# Altium integrated library Infineon_Power_Supply_Voltage_Regulator.IntLib: 346 symbols (part 2 of 16)
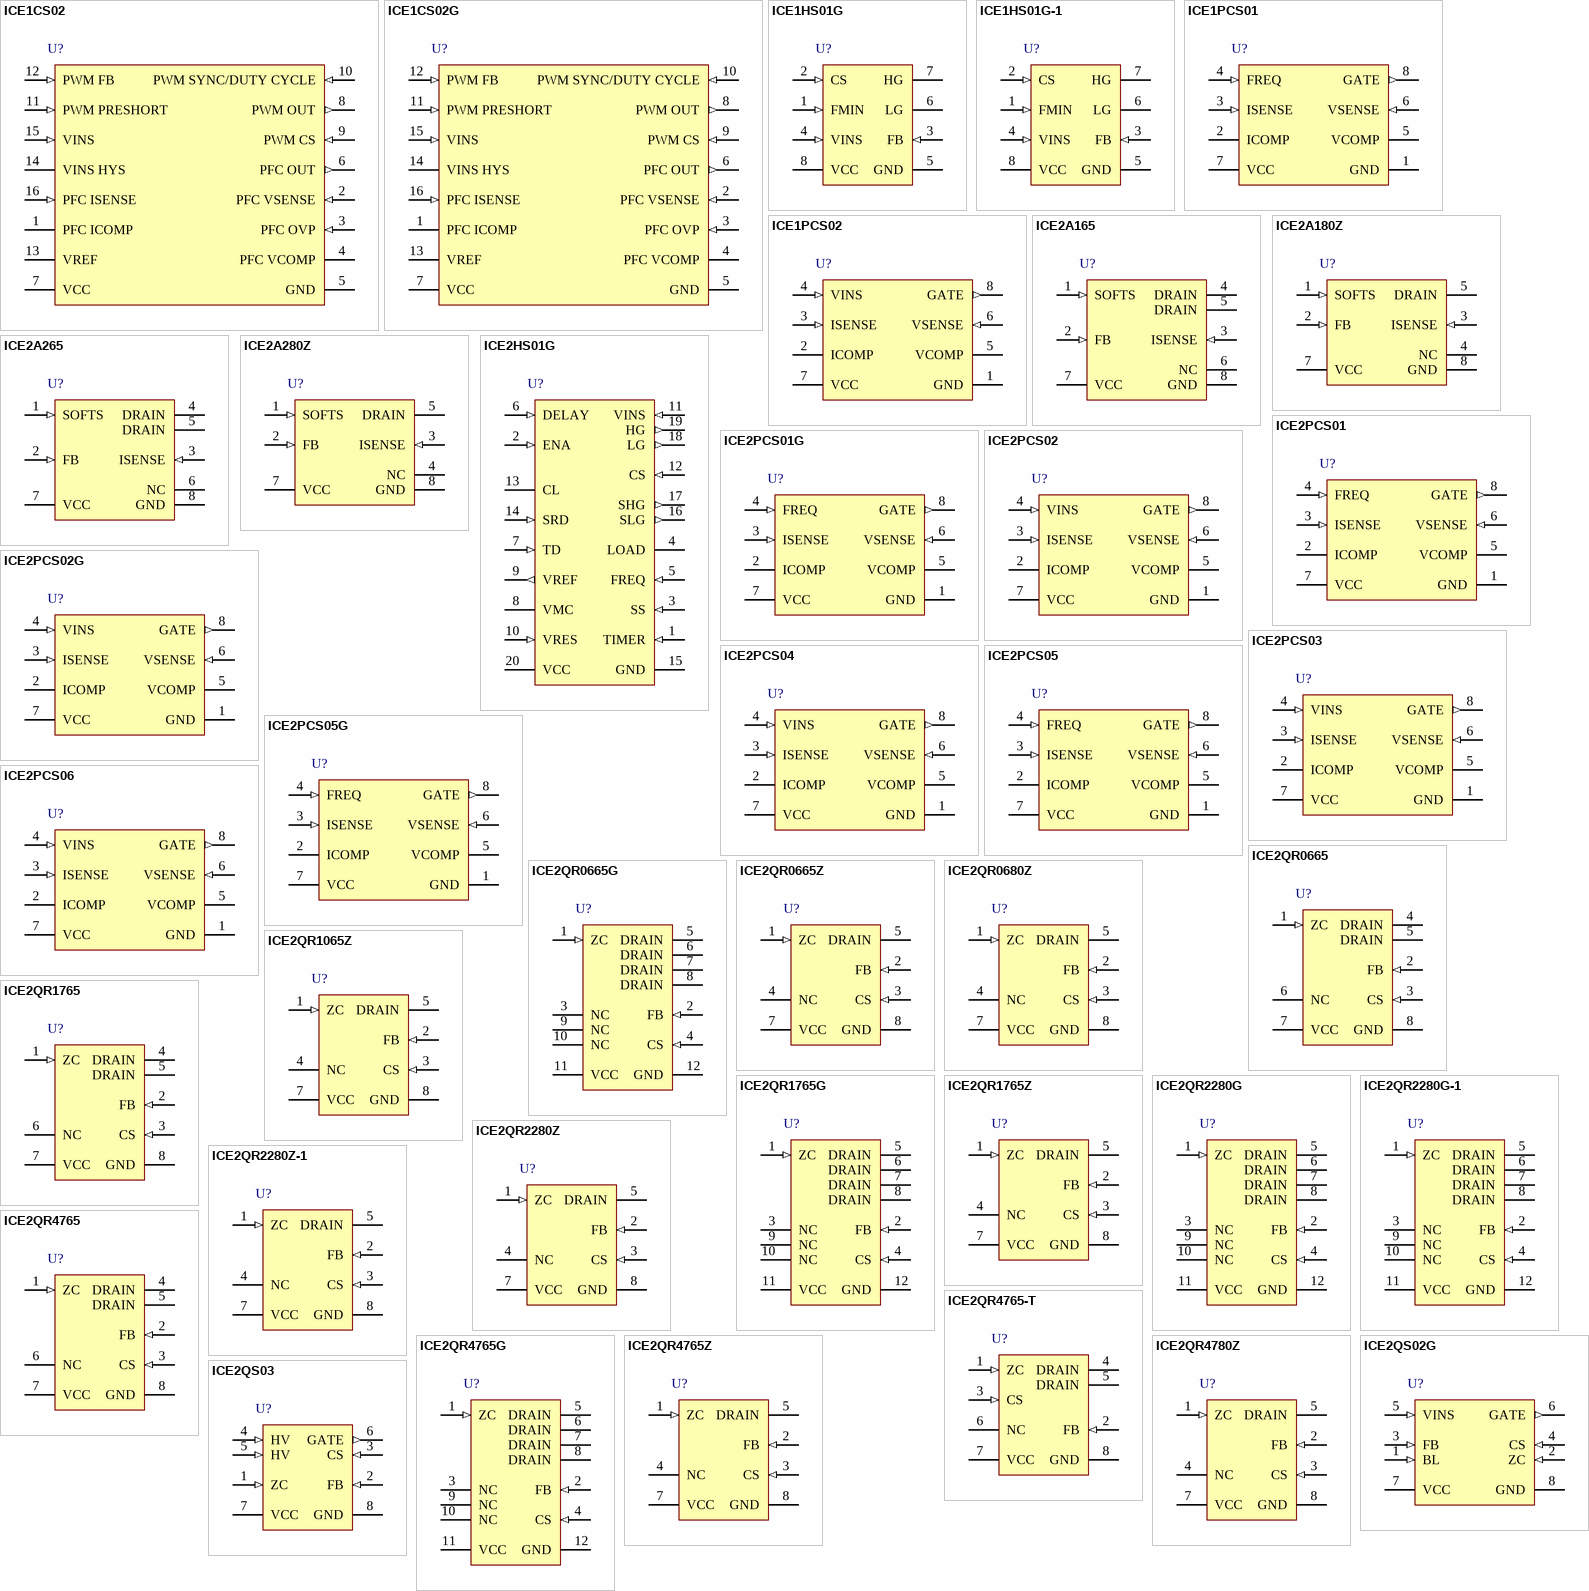
[diagram p10: symbols ICE1CS02 to ICE2QS03]

## ICE2QR1765Z
designator U?
Off-Line SMPS Quasi-Resonant PWM Controller with Integrated 650 V CoolMOS and Startup Cell, 10.5 to 25 V, -25 to 130 degC, PG-DIP-7-1, Tube, Green; Manufacturer: Infineon; PartNumber: ICE2QR1765Z; ESD Protection (max): 2 kV; Frequency ( f ) Range: Variable; Green: TRUE; Green Product: Lead Free; ICC (typ): 1.5 mA; ID (max): 1.5 A; PIN (max): 30.6 W; RDS (on) (typ): 1.7 Ohm; RthJA (max): 96 K/W; tf (typ): 30 ns; VCC (max): 25 V; VCC (min): 10.5 V; VDS (max): 650 V; DatasheetVersion: Rev. 2.1; PackageVersion: Rev. 02, 07/2011; PackageReference: PG-DIP-7-1; PackageDescription: 7-Pin Plastic (Green) Dual In-Line Package, 9.44 x 6.35 mm Body, 2.54 mm Pitch; Supplier 1: Mouser; Supplier Part Number 1: 726-ICE2QR1765Z; Halogen-free: TRUE; tr (typ): 30 ns; Mounting Technology: Through Hole; ComponentLink1Description: Manufacturer URL; ComponentLink1URL: http://www.infineon.com/; ComponentLink2Description: Datasheet; ComponentLink2URL: http://www.infineon.com/dgdl/Datasheet_ICE2QR1765Z_V21_20110830.pdf?folderId=db3a304412b407950112b408e8c90004&fileId=db3a30432f91014f012fb5122441165f; ComponentLink3Description: Package Specification; ComponentLink3URL: http://www.infineon.com/dgdl/Datasheet_ICE3BR0680JZ_V21a_11Jan2012.pdf?folderId=db3a30431f848401011fcbf221ff04c3&fileId=db3a304329a0f6ee0129e8b5bf735b64
footprint INF-PG-DIP-7-1_A (DIP, 7-Leads, Body 9.44x6.35mm, Pitch 2.54mm)
pins: 1 ZC (in) "Zero Crossing", 2 FB (in) "Feedback", 3 CS (in) "Current Sense/ 650V CoolMOS(R) Source", 4 NC "Not Connected", 5 DRAIN (power) "650V CoolMOS(R) Drain", 7 VCC (power) "Controller Supply Voltage", 8 GND (power) "Controller Ground"

## ICE2QR2280G
designator U?
Off-Line SMPS Quasi-Resonant PWM Controller with Integrated 800 V Startup Cell / Depletion CoolMOS, 10.5 to 25 V, -25 to 130 degC, PG-DSO-16/12, Reel, Green; Manufacturer: Infineon; PartNumber: ICE2QR2280G; ESD Protection (max): 2 kV; Frequency ( f ) Range: Variable; Green: TRUE; Green Product: Lead Free; ICC (typ): 1.5 mA; ID (max): 0.81 A; PIN (max): 30 W; RDS (on) (typ): 2.26 Ohm; RthJA (max): 85 K/W; tf (typ): 30 ns; VCC (max): 25 V; VCC (min): 10.5 V; VDS (max): 800 V; DatasheetVersion: Rev. 2.0; PackageReference: PG-DSO-16_12; PackageDescription: 16-Pin Plastic (Green) Dual Small Outline Package, 9.9 x 3.9 mm Body, 1.27 mm Pitch; Supplier 1: Mouser; Supplier Part Number 1: 726-ICE2QR2280G; Halogen-free: False; tr (typ): 30 ns; Mounting Technology: Surface Mount; ComponentLink1Description: Manufacturer URL; ComponentLink1URL: http://www.infineon.com/; ComponentLink2Description: Datasheet; ComponentLink2URL: http://www.infineon.com/dgdl/Datasheet_ICE2QR2280G_v20_20100607.pdf?folderId=db3a304412b407950112b408e8c90004&fileId=db3a304328c6bd5c01293561f75b2e10; ComponentLink3Description: Package Specification; ComponentLink3URL: http://www.infineon.com/dgdl/Datasheet_ICE2QR0665G_20110704_R20.pdf?folderId=db3a304412b407950112b408e8c90004&fileId=db3a304330f686060130fd2a8e477ecb
footprint INF-PG-DSO-16_12_N (SOP, 16-Leads, Body 9.9x3.9mm, Pitch 1.27mm, IPC Medium Density)
footprint INF-PG-DSO-16_12_L (SOP, 16-Leads, Body 9.9x3.9mm, Pitch 1.27mm, IPC High Density)
footprint INF-PG-DSO-16_12_M (SOP, 16-Leads, Body 9.9x3.9mm, Pitch 1.27mm, IPC Low Density)
pins: 1 ZC (in) "Zero crossing", 2 FB (in) "Feedback", 3 NC "Not Connected", 4 CS (in) "Current Sense", 5 DRAIN (power) "800V Depl. CoolMOS(TM) Drain", 6 DRAIN (power) "800V Depl. CoolMOS(TM) Drain", 7 DRAIN (power) "800V Depl. CoolMOS(TM) Drain", 8 DRAIN (power) "800V Depl. CoolMOS(TM) Drain", 9 NC "Not Connected", 10 NC "Not Connected", 11 VCC (power) "Controller Supply Voltage", 12 GND (power) "Controller Ground"

## ICE2QR2280G-1
designator U?
Off-Line SMPS Current Mode Controller with Integrated 800 V CoolMOS  and Startup Cell, -25 to 130 degC, PG-DSO-16_12, Reel, Green; Manufacturer: Infineon; PartNumber: ICE2QR2280G-1; Green: TRUE; ID (max): 0.81 A; PIN (max): 30 W; RDS (on) (typ): 2.26 Ohm; VCC (max): 24 V; VCC (min): 9.85 V; VDS (max): 800 V; DatasheetVersion: Rev. 2.1; PackageVersion: Rev. 01, 02/2013; PackageReference: PG-DSO-16-12; PackageDescription: 16-Pin Plastic (Green) Dual Small Outline Package, 3.9 x 9.9 mm Body, 1.27 mm Pitch; Supplier 1: Mouser; Supplier Part Number 1: N/A; Halogen-free: TRUE; Packing: Reel; Mounting Technology: Surface Mount; ComponentLink1Description: Manufacturer URL; ComponentLink1URL: http://www.infineon.com/; ComponentLink2Description: Datasheet; ComponentLink2URL: http://www.infineon.com/dgdl/Datasheet_ICE2QR2280G-1_V21_20130306.pdf?folderId=db3a30433dd36866013dd41eec4723fc&fileId=db3a30433dd42dcf013dd4f1067601a7; ComponentLink3Description: Package Specification; ComponentLink3URL: http://www.infineon.com/dgdl/Datasheet_ICE2QR2280G-1_V21_20130306.pdf?folderId=db3a30433dd36866013dd41eec4723fc&fileId=db3a30433dd42dcf013dd4f1067601a7
footprint INF-PG-DSO-16-12_A_N (SOP, 12-Leads, Body 9.9x3.9mm, Pitch 1.27mm, IPC Medium Density)
footprint INF-PG-DSO-16-12_A_L (SOP, 12-Leads, Body 9.9x3.9mm, Pitch 1.27mm, IPC High Density)
footprint INF-PG-DSO-16-12_A_M (SOP, 12-Leads, Body 9.9x3.9mm, Pitch 1.27mm, IPC Low Density)
pins: 1 ZC (in) "Zero crossing", 2 FB (in) "Feedback", 3 NC "No connection", 4 CS (in) "Current Sense", 5 DRAIN (power) "800VCoolMOS(R) Drain", 6 DRAIN (power) "800VCoolMOS(R) Drain", 7 DRAIN (power) "800VCoolMOS(R) Drain", 8 DRAIN (power) "800VCoolMOS(R) Drain", 9 NC "No connection", 10 NC "No connection", 11 VCC (power) "Controller Supply Voltage", 12 GND (power) "Controller Ground"

## ICE2QR2280Z
designator U?
Off-Line SMPS Quasi-Resonant PWM Controller with Integrated 800 V CoolMOS and Startup Cell, 10.5 to 25 V, -25 to 130 degC, PG-DIP-7-1, Green; Manufacturer: Infineon; PartNumber: ICE2QR2280Z; ESD Protection (max): 2 kV; Frequency ( f ) Range: Variable; Green: TRUE; Green Product: Lead Free; ICC (typ): 1.5 mA; ID (max): 0.81 A; PIN (max): 31 W; RDS (on) (typ): 2.26 Ohm; RthJA (max): 81 K/W; tf (typ): 30 ns; VCC (max): 25 V; VCC (min): 10.5 V; VDS (max): 800 V; DatasheetVersion: Rev. 2.1; PackageVersion: Rev. 02, 07/2011; PackageReference: PG-DIP-7-1; PackageDescription: 7-Pin Plastic (Green) Dual In-Line Package, 9.44 x 6.35 mm Body, 2.54 mm Pitch; Supplier 1: Mouser; Supplier Part Number 1: 726-ICE2QR2280Z; tr (typ): 30 ns; Mounting Technology: Through Hole; ComponentLink1Description: Manufacturer URL; ComponentLink1URL: http://www.infineon.com/; ComponentLink2Description: Datasheet; ComponentLink2URL: http://www.infineon.com/dgdl/Datasheet_ICE2QR2280Z_v21_20110830.pdf?folderId=db3a304412b407950112b408e8c90004&fileId=db3a30432a7fedfc012a8d8038e00473; ComponentLink3Description: Package Specification; ComponentLink3URL: http://www.infineon.com/dgdl/Datasheet_ICE3BR0680JZ_V21a_11Jan2012.pdf?folderId=db3a30431f848401011fcbf221ff04c3&fileId=db3a304329a0f6ee0129e8b5bf735b64
footprint INF-PG-DIP-7-1_A (DIP, 7-Leads, Body 9.44x6.35mm, Pitch 2.54mm)
pins: 1 ZC (in) "Zero Crossing", 2 FB (in) "Feedback", 3 CS (in) "Current Sense", 4 NC "No connection", 5 DRAIN (power) "800V CoolMOS(R) Drain", 7 VCC (power) "Controller Supply Voltage", 8 GND (power) "Controller Ground"

## ICE2QR2280Z-1
designator U?
Off-Line SMPS Quasi-Resonant PWM Controller with Integrated 800 V CoolMOS  and Startup Cell, -25 to 130 degC, PG-DIP-7-1, Tube, Green; Manufacturer: Infineon; PartNumber: ICE2QR2280Z-1; Green: TRUE; ID (max): 0.81 A; PIN (max): 31 W; RDS (on) (typ): 2.26 Ohm; VCC (max): 24 V; VCC (min): 9.85 V; VDS (max): 800 V; DatasheetVersion: Rev. 2.1; PackageVersion: Rev. 02, 07/2011; PackageReference: PG-DIP-7-1; PackageDescription: 7-Pin Plastic (Green) Dual In-Line Package, 9.44 x 6.35 mm Body, 2.54 mm Pitch; Supplier 1: Mouser; Supplier Part Number 1: N/A; Halogen-free: TRUE; Packing: Tube; Mounting Technology: Through Hole; ComponentLink1Description: Manufacturer URL; ComponentLink1URL: http://www.infineon.com/; ComponentLink2Description: Datasheet; ComponentLink2URL: http://www.infineon.com/dgdl/Datasheet_ICE2QR2280Z-1_V21_20130307.pdf?folderId=db3a30433dd36866013dd41eec4723fc&fileId=db3a30433dd42dcf013dd4f3fcac01b7; ComponentLink3Description: Package Specification; ComponentLink3URL: http://www.infineon.com/dgdl/Datasheet_ICE3BR0680JZ_V21a_11Jan2012.pdf?folderId=db3a30431f848401011fcbf221ff04c3&fileId=db3a304329a0f6ee0129e8b5bf735b64
footprint INF-PG-DIP-7-1_A (DIP, 7-Leads, Body 9.44x6.35mm, Pitch 2.54mm)
pins: 1 ZC (in) "Zero crossing", 2 FB (in) "Feedback", 3 CS (in) "Current Sense", 4 NC "No connection", 5 DRAIN (power) "800V CoolMOS(TM) Drain", 7 VCC (power) "Controller Supply Voltage", 8 GND (power) "Controller Ground"

## ICE2QR4765
designator U?
Off-Line SMPS Quasi-Resonant PWM Controller with Integrated 650 V CoolMOS and Startup Cell, 10.5 to 25 V, -25 to 130 degC, PG-DIP-8, Tube, Green; Manufacturer: Infineon; PartNumber: ICE2QR4765; ESD Protection (max): 2 kV; Frequency ( f ) Range: Variable; Green: TRUE; Green Product: Lead Free; ICC (typ): 1.5 mA; ID (max): 0.5 A; PIN (max): 19 W; RDS (on) (typ): 4.7 Ohm; RthJA (max): 90 K/W; tf (typ): 30 ns; VCC (max): 25 V; VCC (min): 10.5 V; VDS (max): 650 V; DatasheetVersion: Rev. 2.2; PackageVersion: Rev. 02, 05/2012; PackageReference: PG-DIP-8; PackageDescription: 8-Pin Plastic (Green) Dual In-Line Package, 9.44 x 6.35 mm Body, 2.54 mm Pitch; Supplier 1: Mouser; Supplier Part Number 1: 726-ICE2QR4765; Supplier 2: Digi-Key; Supplier Part Number 2: ICE2QR4765-ND; Halogen-free: False; Packing: Tube; tr (typ): 30 ns; Mounting Technology: Through Hole; ComponentLink1Description: Manufacturer URL; ComponentLink1URL: http://www.infineon.com/; ComponentLink2Description: Datasheet; ComponentLink2URL: http://www.infineon.com/dgdl/Datasheet_ICE2QR4765_v22_20110704.pdf?folderId=db3a30431a5c32f2011a77f9c03e6cb4&fileId=db3a3043271faefd012729e82c754df0; ComponentLink3Description: Package Specification; ComponentLink3URL: http://www.infineon.com/dgdl/Datasheet_CoolSET-F3_v22_30Aug2011.pdf?folderId=db3a304412b407950112b4182a3d24f8&fileId=db3a304412b407950112b428f6ba3f30
footprint INF-PG-DIP-8_A (DIP, 8-Leads, Body 9.435x7.875mm, Pitch 2.54mm)
pins: 1 ZC (in) "Zero Crossing", 2 FB (in) "FeedBack", 3 CS (in) "Current Sense/650V CoolMOS(R) Source", 4 DRAIN (power) "650V CoolMOS(R) Drain", 5 DRAIN (power) "650V CoolMOS(R) Drain", 6 NC "Not connected", 7 VCC (power) "Controller Supply Voltage", 8 GND (power) "Controller Ground"

## ICE2QR4765-T
designator U?
Off-Line SMPS Quasi-Resonant PWM Controller, -40 to 130 degC, PG-DIP-8, Tube, Green; Manufacturer: Infineon; PartNumber: ICE2QR4765-T; Green: TRUE; ID (max): 0.5 A; PIN (max): 19 W; RDS (on) (typ): 4.7 Ohm; VCC (max): 24 V; VCC (min): 10.5 V; VDS (max): 650 V; DatasheetVersion: Rev. 2.0; PackageVersion: Rev. 02, 05/2012; PackageReference: PG-DIP-8; PackageDescription: 8-Pin Plastic (Green) Dual In-Line Package, 9.44 x 6.35 mm Body, 2.54 mm Pitch; Supplier 1: Mouser; Supplier Part Number 1: N/A; Halogen-free: TRUE; Packing: Tube; Mounting Technology: Through Hole; ComponentLink1Description: Manufacturer URL; ComponentLink1URL: http://www.infineon.com/; ComponentLink2Description: Datasheet; ComponentLink2URL: http://www.infineon.com/dgdl/Datasheet_ICE2QR4765-T_V2.0_21Mar2013.pdf?folderId=db3a30433dd36866013dd41eec4723fc&fileId=db3a30433dd42dcf013dd4f67f7001c1; ComponentLink3Description: Package Specification; ComponentLink3URL: http://www.infineon.com/dgdl/Datasheet_CoolSET-F3_v22_30Aug2011.pdf?folderId=db3a304412b407950112b4182a3d24f8&fileId=db3a304412b407950112b428f6ba3f30
footprint INF-PG-DIP-8_A (DIP, 8-Leads, Body 9.435x7.875mm, Pitch 2.54mm)
pins: 1 ZC (in) "Zero Crossing", 2 FB (in) "Feedback", 3 CS (in) "Current Sense/650V CoolMOS(R) Source", 4 DRAIN (power) "650V CoolMOS(R) Drain", 5 DRAIN (power) "650V CoolMOS(R) Drain", 6 NC "Not Connected", 7 VCC (power) "Controller Supply Voltage", 8 GND (power) "Controller Ground"

## ICE2QR4765G
designator U?
Off-Line SMPS Quasi-Resonant PWM Controller with Integrated 650 V CoolMOS and Startup Cell, 10.5 to 25 V, -25 to 130 degC, PG-DSO-16/12, Reel, Green; Manufacturer: Infineon; PartNumber: ICE2QR4765G; ESD Protection (max): 2 kV; Frequency ( f ) Range: Variable; Green: TRUE; Green Product: Lead Free; ICC (typ): 1.5 mA; ID (max): 0.5 A; PIN (max): 17 W; RDS (on) (typ): 4.7 Ohm; RthJA (max): 110 K/W; tf (typ): 30 ns; VCC (max): 25 V; VCC (min): 10.5 V; VDS (max): 650 V; DatasheetVersion: Rev. 2.0; PackageReference: PG-DSO-16_12; PackageDescription: 16-Pin Plastic (Green) Dual Small Outline Package, 9.9 x 3.9 mm Body, 1.27 mm Pitch; Supplier 1: Mouser; Supplier Part Number 1: 726-ICE2QR4765G; Halogen-free: TRUE; tr (typ): 30 ns; Mounting Technology: Surface Mount; ComponentLink1Description: Manufacturer URL; ComponentLink1URL: http://www.infineon.com/; ComponentLink2Description: Datasheet; ComponentLink2URL: http://www.infineon.com/dgdl/Datasheet_ICE2QR4765G_20110726_R20.pdf?folderId=db3a304412b407950112b408e8c90004&fileId=db3a30433162923a0131979f8a875525; ComponentLink3Description: Package Specification; ComponentLink3URL: http://www.infineon.com/dgdl/Datasheet_ICE2QR0665G_20110704_R20.pdf?folderId=db3a304412b407950112b408e8c90004&fileId=db3a304330f686060130fd2a8e477ecb
footprint INF-PG-DSO-16_12_N (SOP, 16-Leads, Body 9.9x3.9mm, Pitch 1.27mm, IPC Medium Density)
footprint INF-PG-DSO-16_12_L (SOP, 16-Leads, Body 9.9x3.9mm, Pitch 1.27mm, IPC High Density)
footprint INF-PG-DSO-16_12_M (SOP, 16-Leads, Body 9.9x3.9mm, Pitch 1.27mm, IPC Low Density)
pins: 1 ZC (in) "Zero crossing", 2 FB (in) "Feedback", 3 NC "Not Connected", 4 CS (in) "Current Sense", 5 DRAIN (power) "650V CoolMOS(TM) Drain", 6 DRAIN (power) "650V CoolMOS(TM) Drain", 7 DRAIN (power) "650V CoolMOS(TM) Drain", 8 DRAIN (power) "650V CoolMOS(TM) Drain", 9 NC "Not Connected", 10 NC "Not Connected", 11 VCC (power) "Controller Supply Voltage", 12 GND (power) "Controller Ground"

## ICE2QR4765Z
designator U?
Off-Line SMPS Quasi-Resonant PWM Controller with Integrated 650 V CoolMOS and Startup Cell, 10.5 to 25 V, -25 to 130 degC, PG-DIP-7-1, Tube, Green; Manufacturer: Infineon; PartNumber: ICE2QR4765Z; ESD Protection (max): 2 kV; Frequency ( f ) Range: Variable; Green: TRUE; Green Product: Lead Free; ICC (typ): 1.5 mA; ID (max): 0.5 A; PIN (max): 18 W; RDS (on) (typ): 4.7 Ohm; RthJA (max): 96 K/W; tf (typ): 30 ns; VCC (max): 25 V; VCC (min): 10.5 V; VDS (max): 650 V; DatasheetVersion: Rev. 2.1; PackageVersion: Rev. 02, 07/2011; PackageReference: PG-DIP-7-1; PackageDescription: 7-Pin Plastic (Green) Dual In-Line Package, 9.44 x 6.35 mm Body, 2.54 mm Pitch; Supplier 1: Mouser; Supplier Part Number 1: 726-ICE2QR4765Z; Halogen-free: TRUE; tr (typ): 30 ns; Mounting Technology: Through Hole; ComponentLink1Description: Manufacturer URL; ComponentLink1URL: http://www.infineon.com/; ComponentLink2Description: Datasheet; ComponentLink2URL: http://www.infineon.com/dgdl/Datasheet_ICE2QR4765Z_V21_20110830.pdf?folderId=db3a304412b407950112b408e8c90004&fileId=db3a304330046413013048a5435f51d2; ComponentLink3Description: Package Specification; ComponentLink3URL: http://www.infineon.com/dgdl/Datasheet_ICE3BR0680JZ_V21a_11Jan2012.pdf?folderId=db3a30431f848401011fcbf221ff04c3&fileId=db3a304329a0f6ee0129e8b5bf735b64
footprint INF-PG-DIP-7-1_A (DIP, 7-Leads, Body 9.44x6.35mm, Pitch 2.54mm)
pins: 1 ZC (in) "Zero Crossing", 2 FB (in) "Feedback", 3 CS (in) "Current Sense/ 650V CoolMOS(R) Source", 4 NC "Not Connected", 5 DRAIN (power) "650V CoolMOS(R) Drain", 7 VCC (power) "Controller Supply Voltage", 8 GND (power) "Controller Ground"

## ICE2QR4780Z
designator U?
Off-Line SMPS Quasi-Resonant PWM Controller with Integrated 800 V CoolMOS and Startup Cell, 10.5 to 25 V, -25 to 130 degC, PG-DIP-7-1, Green; Manufacturer: Infineon; PartNumber: ICE2QR4780Z; ESD Protection (max): 2 kV; Frequency ( f ) Range: Variable; Green: TRUE; Green Product: Lead Free; ICC (typ): 1.5 mA; ID (max): 0.58 A; PIN (max): 22 W; RDS (on) (typ): 4.7 Ohm; RthJA (max): 80 K/W; tf (typ): 30 ns; VCC (max): 25 V; VCC (min): 10.5 V; VDS (max): 800 V; DatasheetVersion: Rev. 2.1; PackageVersion: Rev. 02, 07/2011; PackageReference: PG-DIP-7-1; PackageDescription: 7-Pin Plastic (Green) Dual In-Line Package, 9.44 x 6.35 mm Body, 2.54 mm Pitch; Supplier 1: Mouser; Supplier Part Number 1: 726-ICE2QR4780Z; Halogen-free: TRUE; tr (typ): 30 ns; Mounting Technology: Through Hole; ComponentLink1Description: Manufacturer URL; ComponentLink1URL: http://www.infineon.com/; ComponentLink2Description: Datasheet; ComponentLink2URL: http://www.infineon.com/dgdl/Datasheet_ICE2QR4780Z_v21_20110830.pdf?folderId=db3a304412b407950112b408e8c90004&fileId=db3a30432a7fedfc012ab20ddc3636f8; ComponentLink3Description: Package Specification; ComponentLink3URL: http://www.infineon.com/dgdl/Datasheet_ICE3BR0680JZ_V21a_11Jan2012.pdf?folderId=db3a30431f848401011fcbf221ff04c3&fileId=db3a304329a0f6ee0129e8b5bf735b64
footprint INF-PG-DIP-7-1_A (DIP, 7-Leads, Body 9.44x6.35mm, Pitch 2.54mm)
pins: 1 ZC (in) "Zero crossing", 2 FB (in) "Feedback", 3 CS (in) "Current Sense", 4 NC "Not Connected", 5 DRAIN (power) "800V CoolMOS(TM) Drain", 7 VCC (power) "Controller Supply Voltage", 8 GND "Controller Ground"

## ICE2QS02G
designator U?
Quasi-Resonant PWM Controller, -25 to 125 degC, PG-DSO-8_B, Green; Manufacturer: Infineon; PartNumber: ICE2QS02G; Green: TRUE; ICC (max): 2 mA; Output: MOSFET Gate Driver; VCC (max): 27 V; VCC (min): 11 V; DatasheetVersion: Rev. 2.0; PackageReference: PG-DSO-8_B; PackageDescription: 8-Pin Plastic (Green) Dual Small Outline Package, 4.91 x 3.96 mm Body, 1.27 mm Pitch; Supplier 1: Mouser; Supplier Part Number 1: 726-ICE2QS02G; Supplier 2: Digi-Key; Supplier Part Number 2: ICE2QS02G-ND; Mounting Technology: Surface Mount; ComponentLink1Description: Manufacturer URL; ComponentLink1URL: http://www.infineon.com/; ComponentLink2Description: Datasheet; ComponentLink2URL: http://www.infineon.com/dgdl/Final_Datasheet_ICE2QS02G_V20_20080613_3.pdf?folderId=db3a304412b407950112b4182a3d24f8&fileId=db3a30431a5c32f2011abef4f7fd3bc8; ComponentLink3Description: Package Specification; ComponentLink3URL: http://www.infineon.com/dgdl/Datasheet_ICE1HS01G_v2.0_20090824.pdf?folderId=db3a3043156fd5730115da1adffb1528&fileId=db3a304327b8975001281ab6d8201a99
footprint INF-PG-DSO-8_B_N (SOP, 8-Leads, Body 4.91x3.96mm, Pitch 1.27mm, IPC Medium Density)
footprint INF-PG-DSO-8_B_L (SOP, 8-Leads, Body 4.91x3.96mm, Pitch 1.27mm, IPC High Density)
footprint INF-PG-DSO-8_B_M (SOP, 8-Leads, Body 4.91x3.96mm, Pitch 1.27mm, IPC Low Density)
pins: 1 BL (in) "Blanking Time", 2 ZC (in) "Zero Crossing", 3 FB (in) "Feedback", 4 CS (in) "Primary Current Sensing", 5 VINS (in) "Input Voltage Sensing", 6 GATE (out) "Gate Driver Output", 7 VCC (power) "Controller Supply Voltage", 8 GND (power) "Controller Ground"

## ICE2QS03
designator U?
Quasi-Resonant PWM Controller, 10.5 to 25 V, -25 to 125 degC, PG-DIP-8, Green; Manufacturer: Infineon; PartNumber: ICE2QS03; Frequency ( f ) Range: Variable; Green: TRUE; Group: DIP-8; ICC (max): 2.3 mA; Output: MOSFET Gate Driver; VCC (max): 25 V; VCC (min): 10.5 V; DatasheetVersion: Rev. 2.2; PackageVersion: Rev. 02, 05/2012; PackageReference: PG-DIP-8; PackageDescription: 8-Pin Plastic (Green) Dual In-Line Package, 9.44 x 6.35 mm Body, 2.54 mm Pitch; Supplier 1: Mouser; Supplier Part Number 1: 726-ICE2QS03; Supplier 2: Digi-Key; Supplier Part Number 2: ICE2QS03-ND; Mounting Technology: Through Hole; ComponentLink1Description: Manufacturer URL; ComponentLink1URL: http://www.infineon.com/; ComponentLink2Description: Datasheet; ComponentLink2URL: http://www.infineon.com/dgdl/Datasheet_ICE2QS03_V22_20110704.pdf?folderId=db3a304412b407950112b4182a3d24f8&fileId=db3a304325305e6d012566b50ebd7070; ComponentLink3Description: Package Specification; ComponentLink3URL: http://www.infineon.com/dgdl/Datasheet_CoolSET-F3_v22_30Aug2011.pdf?folderId=db3a304412b407950112b4182a3d24f8&fileId=db3a304412b407950112b428f6ba3f30
footprint INF-PG-DIP-8_A (DIP, 8-Leads, Body 9.435x7.875mm, Pitch 2.54mm)
pins: 1 ZC (in) "Zero Crossing", 2 FB (in) "Feedback", 3 CS (in) "Current Sense", 4 HV (in) "High Voltage Input", 5 HV (in) "High Voltage Input", 6 GATE (out) "Gate Drive Output", 7 VCC (power) "Controller Supply Voltage", 8 GND (power) "Controller Ground"

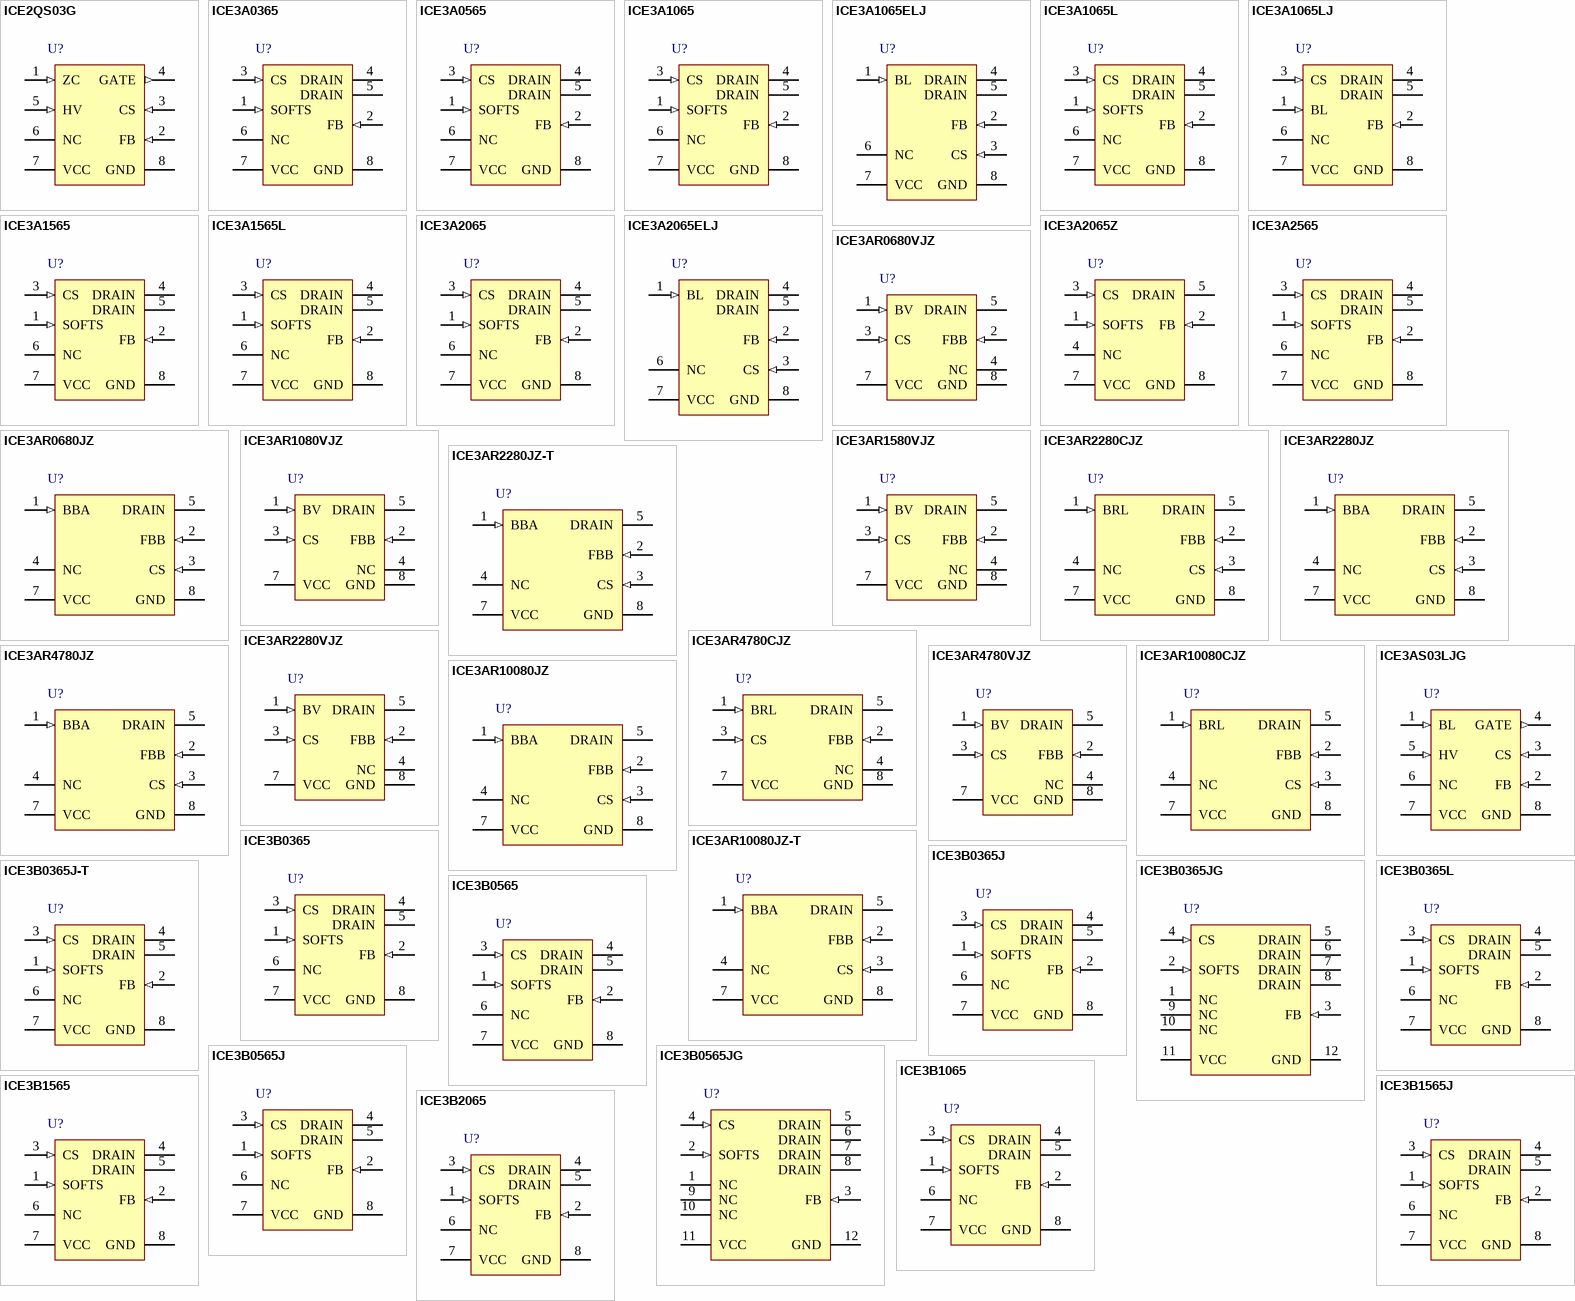
[diagram p1: symbols ICE2QS03G to ICE3B2065]

## ICE2QS03G
designator U?
Quasi-Resonant PWM Controller, -25 to 130 degC, PG-DSO-8-3, Green; Manufacturer: Infineon; PartNumber: ICE2QS03G; Green: TRUE; ICC (max): 2.3 mA; Output: MOSFET Gate Driver; VCC (max): 24 V; VCC (min): 10.5 V; DatasheetVersion: Rev. 2.2; PackageReference: PG-DSO-8-3; PackageDescription: 8-Pin Plastic (Green) Dual Small Outline Package, 4.9 x 3.9 mm Body, 1.27 mm Pitch; Supplier 1: Mouser; Supplier Part Number 1: 726-ICE2QS03G; Supplier 2: Digi-Key; Supplier Part Number 2: ICE2QS03G-ND; Mounting Technology: Surface Mount; ComponentLink1Description: Manufacturer URL; ComponentLink1URL: http://www.infineon.com/; ComponentLink2Description: Datasheet; ComponentLink2URL: http://www.infineon.com/dgdl/Datasheet_ICE2QS03G_V22_20121208.pdf?folderId=db3a304412b407950112b4182a3d24f8&fileId=db3a304324fc7f9a01250689233a7046; ComponentLink3Description: Package Specification; ComponentLink3URL: http://www.infineon.com/cms/packages/SMD_-_Surface_Mounted_Devices/P-PG-DSO/P-PG-DSO-08-03x_-6x_-7x_-8x_-10x_-13x_-15x_-18x_-19x_-20x_-23.html?__locale=en
footprint INF-PG-DSO-8-3_N (SOP, 8-Leads, Body 4.9x3.9mm, Pitch 1.27mm, IPC Medium Density)
footprint INF-PG-DSO-8-3_L (SOP, 8-Leads, Body 4.9x3.9mm, Pitch 1.27mm, IPC High Density)
footprint INF-PG-DSO-8-3_M (SOP, 8-Leads, Body 4.9x3.9mm, Pitch 1.27mm, IPC Low Density)
pins: 1 ZC (in) "Zero Crossing", 2 FB (in) "Feedback", 3 CS (in) "Current Sense", 4 GATE (out) "Gate Driver Output", 5 HV (in) "High Voltage Input", 6 NC "Not connected", 7 VCC (power) "Controller Supply Voltage", 8 GND (power) "Controller Ground"

## ICE3A0365
designator U?
Off-Line SMPS Current Mode Controller, -25 to 130 degC, PG-DIP-8, Tube, Green; Manufacturer: Infineon; PartNumber: ICE3A0365; Green: TRUE; ID (max): 0.3 A; PIN (max): 10 W; RDS (on) (typ): 6.45 Ohm; VCC (max): 21 V; VCC (min): 8.5 V; VDS (max): 650 V; DatasheetVersion: Rev. 2.3; PackageVersion: Rev. 02, 05/2012; PackageReference: PG-DIP-8; PackageDescription: 8-Pin Plastic (Green) Dual In-Line Package, 9.44 x 6.35 mm Body, 2.54 mm Pitch; Supplier 1: Mouser; Supplier Part Number 1: 726-ICE3A0365; Supplier 2: Digi-Key; Supplier Part Number 2: ICE3A0365-ND; Halogen-free: FALSE; Packing: Tube; Mounting Technology: Through Hole; ComponentLink1Description: Manufacturer URL; ComponentLink1URL: http://www.infineon.com/; ComponentLink2Description: Datasheet; ComponentLink2URL: http://www.infineon.com/dgdl/Datasheet_CoolSET-F3_v22_30Aug2011.pdf?folderId=db3a304412b407950112b4182a3d24f8&fileId=db3a304412b407950112b428f6ba3f30; ComponentLink3Description: Package Specification; ComponentLink3URL: http://www.infineon.com/dgdl/Datasheet_CoolSET-F3_v22_30Aug2011.pdf?folderId=db3a304412b407950112b4182a3d24f8&fileId=db3a304412b407950112b428f6ba3f30
footprint INF-PG-DIP-8_A (DIP, 8-Leads, Body 9.435x7.875mm, Pitch 2.54mm)
pins: 1 SOFTS (in) "Soft-Start", 2 FB (in) "Feedback", 3 CS (in) "Current Sense/650V1) Depl. CoolMOS(TM) Source", 4 DRAIN (power) "650V1) Depl. CoolMOS(TM) Drain", 5 DRAIN (power) "650V1) Depl. CoolMOS(TM) Drain", 6 NC "Not Connected", 7 VCC (power) "Controller Supply Voltage", 8 GND (power) "Controller Ground"

## ICE3A0565
designator U?
Off-Line SMPS Current Mode Controller, -25 to 130 degC, PG-DIP-8, Tube, Green; Manufacturer: Infineon; PartNumber: ICE3A0565; Green: TRUE; ID (max): 0.5 A; PIN (max): 12 W; RDS (on) (typ): 4.7 Ohm; VCC (max): 21 V; VCC (min): 8.5 V; VDS (max): 650 V; DatasheetVersion: Rev. 2.3; PackageVersion: Rev. 02, 05/2012; PackageReference: PG-DIP-8; PackageDescription: 8-Pin Plastic (Green) Dual In-Line Package, 9.44 x 6.35 mm Body, 2.54 mm Pitch; Supplier 1: Mouser; Supplier Part Number 1: 726-ICE3A0565; Supplier 2: Digi-Key; Supplier Part Number 2: ICE3A0565-ND; Halogen-free: FALSE; Packing: Tube; Mounting Technology: Through Hole; ComponentLink1Description: Manufacturer URL; ComponentLink1URL: http://www.infineon.com/; ComponentLink2Description: Datasheet; ComponentLink2URL: http://www.infineon.com/dgdl/Datasheet_CoolSET-F3_v22_30Aug2011.pdf?folderId=db3a304412b407950112b4182a3d24f8&fileId=db3a304412b407950112b428f6ba3f30; ComponentLink3Description: Package Specification; ComponentLink3URL: http://www.infineon.com/dgdl/Datasheet_CoolSET-F3_v22_30Aug2011.pdf?folderId=db3a304412b407950112b4182a3d24f8&fileId=db3a304412b407950112b428f6ba3f30
footprint INF-PG-DIP-8_A (DIP, 8-Leads, Body 9.435x7.875mm, Pitch 2.54mm)
pins: 1 SOFTS (in) "Soft-Start", 2 FB (in) "Feedback", 3 CS (in) "Current Sense/650V1) Depl. CoolMOS(TM) Source", 4 DRAIN (power) "650V1) Depl. CoolMOS(TM) Drain", 5 DRAIN (power) "650V1) Depl. CoolMOS(TM) Drain", 6 NC "Not Connected", 7 VCC (power) "Controller Supply Voltage", 8 GND (power) "Controller Ground"

## ICE3A1065
designator U?
Off-Line SMPS Current Mode Controller, -25 to 130 degC, PG-DIP-8, Tube, Green; Manufacturer: Infineon; PartNumber: ICE3A1065; Green: TRUE; ID (max): 1 A; PIN (max): 16 W; RDS (on) (typ): 2.95 Ohm; VCC (max): 21 V; VCC (min): 8.5 V; VDS (max): 650 V; DatasheetVersion: Rev. 2.3; PackageVersion: Rev. 02, 05/2012; PackageReference: PG-DIP-8; PackageDescription: 8-Pin Plastic (Green) Dual In-Line Package, 9.44 x 6.35 mm Body, 2.54 mm Pitch; Supplier 1: Mouser; Supplier Part Number 1: 726-ICE3A1065; Supplier 2: Farnell; Supplier Part Number 2: 1471709; Supplier 3: Digi-Key; Supplier Part Number 3: ICE3A1065-ND; Halogen-free: FALSE; Packing: Tube; Mounting Technology: Through Hole; ComponentLink1Description: Manufacturer URL; ComponentLink1URL: http://www.infineon.com/; ComponentLink2Description: Datasheet; ComponentLink2URL: http://www.infineon.com/dgdl/Datasheet_CoolSET-F3_v22_30Aug2011.pdf?folderId=db3a304412b407950112b4182a3d24f8&fileId=db3a304412b407950112b428f6ba3f30; ComponentLink3Description: Package Specification; ComponentLink3URL: http://www.infineon.com/dgdl/Datasheet_CoolSET-F3_v22_30Aug2011.pdf?folderId=db3a304412b407950112b4182a3d24f8&fileId=db3a304412b407950112b428f6ba3f30
footprint INF-PG-DIP-8_A (DIP, 8-Leads, Body 9.435x7.875mm, Pitch 2.54mm)
pins: 1 SOFTS (in) "Soft-Start", 2 FB (in) "Feedback", 3 CS (in) "Current Sense/650V1) Depl. CoolMOS(TM) Source", 4 DRAIN (power) "650V1) Depl. CoolMOS(TM) Drain", 5 DRAIN (power) "650V1) Depl. CoolMOS(TM) Drain", 6 NC "Not Connected", 7 VCC (power) "Controller Supply Voltage", 8 GND (power) "Controller Ground"

## ICE3A1065ELJ
designator U?
Off-Line SMPS Current Mode Controller with Integrated 650 V CoolMOS and Startup Cell (Latched and Frequency Jitter Mode), 10.5 to 26 V, -25 to 130 degC, PG-DIP-8, Tube, Green; Manufacturer: Infineon; PartNumber: ICE3A1065ELJ; ESD Protection (max): 2 kV; Frequency ( f ) Range: 100 kHz fixed; Green: TRUE; Green Product: Lead Free; ICC (typ): 2.5 mA; ID (max): 1 A; PIN (max): 16 W; RDS (on) (typ): 2.95 Ohm; RthJA (max): 90 K/W; tf (typ): 30 ns; VCC (max): 26 V; VCC (min): 10.5 V; VDS (max): 650 V; DatasheetVersion: Rev. 2.3; PackageVersion: Rev. 02, 05/2012; PackageReference: PG-DIP-8; PackageDescription: 8-Pin Plastic (Green) Dual In-Line Package, 9.44 x 6.35 mm Body, 2.54 mm Pitch; Supplier 1: Mouser; Supplier Part Number 1: 726-ICE3A1065ELJ; Supplier 2: Digi-Key; Supplier Part Number 2: ICE3A1065ELJ-ND; tr (typ): 30 ns; Mounting Technology: Through Hole; ComponentLink1Description: Manufacturer URL; ComponentLink1URL: http://www.infineon.com/; ComponentLink2Description: Datasheet; ComponentLink2URL: http://www.infineon.com/dgdl/Datasheet_ICE3A1065ELJ_v22_30Jun2011.pdf?folderId=db3a304412b407950112b4182a3d24f8&fileId=db3a30431c69a49d011c93b934c0056d; ComponentLink3Description: Package Specification; ComponentLink3URL: http://www.infineon.com/dgdl/Datasheet_CoolSET-F3_v22_30Aug2011.pdf?folderId=db3a304412b407950112b4182a3d24f8&fileId=db3a304412b407950112b428f6ba3f30
footprint INF-PG-DIP-8_A (DIP, 8-Leads, Body 9.435x7.875mm, Pitch 2.54mm)
pins: 1 BL (in) "Blanking and Latch", 2 FB (in) "FeedBack", 3 CS (in) "Current Sense/650V CoolMOS(R) Source", 4 DRAIN (power) "650V CoolMOS(R) Drain", 5 DRAIN (power) "650V CoolMOS(R) Drain", 6 NC "Not connected", 7 VCC (power) "Controller Supply Voltage", 8 GND (power) "Controller GrouND"

## ICE3A1065L
designator U?
Off-Line SMPS Current Mode Controller, -25 to 130 degC, PG-DIP-8, Tube, Green; Manufacturer: Infineon; PartNumber: ICE3A1065L; Green: TRUE; ID (max): 1 A; PIN (max): 16 W; RDS (on) (typ): 2.95 Ohm; VCC (max): 21 V; VCC (min): 8.5 V; VDS (max): 650 V; DatasheetVersion: Rev. 2.1; PackageVersion: Rev. 02, 05/2012; PackageReference: PG-DIP-8; PackageDescription: 8-Pin Plastic (Green) Dual In-Line Package, 9.44 x 6.35 mm Body, 2.54 mm Pitch; Supplier 1: Mouser; Supplier Part Number 1: 726-ICE3A1065L; Supplier 2: Digi-Key; Supplier Part Number 2: ICE3A1065L-ND; Halogen-free: FALSE; Packing: Tube; Mounting Technology: Through Hole; ComponentLink1Description: Manufacturer URL; ComponentLink1URL: http://www.infineon.com/; ComponentLink2Description: Datasheet; ComponentLink2URL: http://www.infineon.com/dgdl/Datasheet_ICE3xxx65Lv2_0_8May06.pdf?folderId=db3a304412b407950112b409ae510341&fileId=db3a304412b407950112b428fa4e3f69; ComponentLink3Description: Package Specification; ComponentLink3URL: http://www.infineon.com/dgdl/Datasheet_CoolSET-F3_v22_30Aug2011.pdf?folderId=db3a304412b407950112b4182a3d24f8&fileId=db3a304412b407950112b428f6ba3f30
footprint INF-PG-DIP-8_A (DIP, 8-Leads, Body 9.435x7.875mm, Pitch 2.54mm)
pins: 1 SOFTS (in) "Soft-Start", 2 FB (in) "Feedback", 3 CS (in) "Current Sense/650V Depl. CoolMOS(TM) Source", 4 DRAIN (power) "650V Depl. CoolMOS(TM) Drain", 5 DRAIN (power) "650V Depl. CoolMOS(TM) Drain", 6 NC "Not Connected", 7 VCC (power) "Controller Supply Voltage", 8 GND (power) "Controller Ground"

## ICE3A1065LJ
designator U?
Off-Line SMPS Current Mode Controller, -25 to 130 degC, PG-DIP-8, Tube, Green; Manufacturer: Infineon; PartNumber: ICE3A1065LJ; Green: TRUE; ID (max): 1 A; PIN (max): 16 W; RDS (on) (typ): 2.95 Ohm; VCC (max): 26 V; VCC (min): 10.5 V; VDS (max): 650 V; DatasheetVersion: Rev. 2.4; PackageVersion: Rev. 02, 05/2012; PackageReference: PG-DIP-8; PackageDescription: 8-Pin Plastic (Green) Dual In-Line Package, 9.44 x 6.35 mm Body, 2.54 mm Pitch; Supplier 1: Mouser; Supplier Part Number 1: 726-ICE3A1065LJ; Supplier 2: Digi-Key; Supplier Part Number 2: ICE3A1065LJ-ND; Halogen-free: FALSE; Packing: Tube; Mounting Technology: Through Hole; ComponentLink1Description: Manufacturer URL; ComponentLink1URL: http://www.infineon.com/; ComponentLink2Description: Datasheet; ComponentLink2URL: http://www.infineon.com/dgdl/Datasheet_ICE3A1065LJ_v23_30+Jun+2011.pdf?folderId=db3a304412b407950112b408e8c90004&fileId=db3a304412b407950112b428fc573f70; ComponentLink3Description: Package Specification; ComponentLink3URL: http://www.infineon.com/dgdl/Datasheet_CoolSET-F3_v22_30Aug2011.pdf?folderId=db3a304412b407950112b4182a3d24f8&fileId=db3a304412b407950112b428f6ba3f30
footprint INF-PG-DIP-8_A (DIP, 8-Leads, Body 9.435x7.875mm, Pitch 2.54mm)
pins: 1 BL (in) "Blanking and Latch", 2 FB (in) "Feedback", 3 CS (in) "Current Sense/650V Depl. CoolMOS(TM) Source", 4 DRAIN (power) "650V Depl. CoolMOS(TM) Drain", 5 DRAIN (power) "650V Depl. CoolMOS(TM) Drain", 6 NC "Not Connected", 7 VCC (power) "Controller Supply Voltage", 8 GND (power) "Controller Ground"

## ICE3A1565
designator U?
Off-Line SMPS Current Mode Controller with Integrated 650 V Startup Cell / Depletion CoolMOS, 8.5 to 21 V, -25 to 130 degC, INF-PG-DIP-8, Tube, Green; Manufacturer: Infineon; PartNumber: ICE3A1565; ESD Protection (max): 3 kV; Frequency ( f ) Range: 100 kHz fixed; Green: TRUE; Green Product: Lead Free; ICC (typ): 6.3 mA; ID (max): 1.5 A; PIN (max): 20 W; RDS (on) (typ): 1.7 Ohm; RthJA (max): 90 K/W; tf (typ): 30 ns; VCC (max): 21 V; VCC (min): 8.5 V; VDS (max): 650 V; DatasheetVersion: Rev. 2.3; PackageVersion: Rev. 02, 05/2012; PackageReference: PG-DIP-8; PackageDescription: 8-Pin Plastic (Green) Dual In-Line Package, 9.44 x 6.35 mm Body, 2.54 mm Pitch; Supplier 1: Mouser; Supplier Part Number 1: 726-ICE3A1565; Supplier 2: Newark; Supplier Part Number 2: 92K0553; Supplier 3: Farnell; Supplier Part Number 3: 1095677; Supplier 4: Digi-Key; Supplier Part Number 4: ICE3A1565-ND; Halogen-free: available; Packing: Tube; tr (typ): 30 ns; Mounting Technology: Through Hole; ComponentLink1Description: Manufacturer URL; ComponentLink1URL: http://www.infineon.com/; ComponentLink2Description: Datasheet; ComponentLink2URL: http://www.infineon.com/dgdl/Datasheet_CoolSET-F3_v22_30Aug2011.pdf?folderId=db3a304412b407950112b4182a3d24f8&fileId=db3a304412b407950112b428f6ba3f30; ComponentLink3Description: Package Specification; ComponentLink3URL: http://www.infineon.com/dgdl/Datasheet_CoolSET-F3_v22_30Aug2011.pdf?folderId=db3a304412b407950112b4182a3d24f8&fileId=db3a304412b407950112b428f6ba3f30
footprint INF-PG-DIP-8_A (DIP, 8-Leads, Body 9.435x7.875mm, Pitch 2.54mm)
pins: 1 SOFTS (in) "Soft-Start", 2 FB (in) "FeedBack", 3 CS (in) "Current Sense/650V CoolMOS(TM) Source", 4 DRAIN (power) "650V CoolMOS(TM) Drain", 5 DRAIN (power) "650V CoolMOS(TM) Drain", 6 NC "Not connected", 7 VCC (power) "Controller Supply Voltage", 8 GND (power) "Controller GrouND"

## ICE3A1565L
designator U?
Off-Line SMPS Current Mode Controller with Integrated 650 V Startup Cell / Depletion CoolMOS and Latched off Mode, 8.5 to 21 V, -25 to 130 degC, PG-DIP-8, Green; Manufacturer: Infineon; PartNumber: ICE3A1565L; ESD Protection (max): 3 kV; Frequency ( f ) Range: 100 kHz fixed; Green: TRUE; Green Product: Lead Free; ICC (typ): 6.3 mA; ID (max): 1.5 A; PIN (max): 20 W; RDS (on) (typ): 1.7 Ohm; RthJA (max): 90 K/W; tf (typ): 30 ns; VCC (max): 21 V; VCC (min): 8.5 V; VDS (max): 650 V; DatasheetVersion: Rev. 2.1; PackageVersion: Rev. 02, 05/2012; PackageReference: PG-DIP-8; PackageDescription: 8-Pin Plastic (Green) Dual In-Line Package, 9.44 x 6.35 mm Body, 2.54 mm Pitch; Supplier 1: Mouser; Supplier Part Number 1: N/A; Supplier 2: Digi-Key; Supplier Part Number 2: ICE3A1565L-ND; Halogen-free: available; tr (typ): 30 ns; Mounting Technology: Through Hole; ComponentLink1Description: Manufacturer URL; ComponentLink1URL: http://www.infineon.com/; ComponentLink2Description: Datasheet; ComponentLink2URL: http://www.infineon.com/dgdl/Datasheet_ICE3xxx65Lv2_0_8May06.pdf?folderId=db3a304412b407950112b409ae510341&fileId=db3a304412b407950112b428fa4e3f69; ComponentLink3Description: Package Specification; ComponentLink3URL: http://www.infineon.com/dgdl/Datasheet_CoolSET-F3_v22_30Aug2011.pdf?folderId=db3a304412b407950112b4182a3d24f8&fileId=db3a304412b407950112b428f6ba3f30
footprint INF-PG-DIP-8_A (DIP, 8-Leads, Body 9.435x7.875mm, Pitch 2.54mm)
pins: 1 SOFTS (in) "Soft-Start", 2 FB (in) "FeedBack", 3 CS (in) "Current Sense/650V Depl CoolMOS(TM) Source", 4 DRAIN (power) "650V Depl CoolMOS(TM) Drain", 5 DRAIN (power) "650V Depl CoolMOS(TM) Drain", 6 NC "Not connected", 7 VCC (power) "Controller Supply Voltage", 8 GND (power) "Controller GrouND"

## ICE3A2065
designator U?
Off-Line SMPS Current Mode Controller with Integrated 650 V Startup Cell / Depletion CoolMOS, 8.5 to 21 V, -25 to 130 degC, INF-PG-DIP-8, Tube, Green; Manufacturer: Infineon; PartNumber: ICE3A2065; ESD Protection (max): 3 kV; Frequency ( f ) Range: 100 kHz fixed; Green: TRUE; Green Product: Lead Free; ICC (typ): 7.1 mA; ID (max): 2 A; PIN (max): 28 W; RDS (on) (typ): 0.92 Ohm; RthJA (max): 90 K/W; tf (typ): 30 ns; VCC (max): 21 V; VCC (min): 8.5 V; VDS (max): 650 V; DatasheetVersion: Rev. 2.3; PackageVersion: Rev. 02, 05/2012; PackageReference: PG-DIP-8; PackageDescription: 8-Pin Plastic (Green) Dual In-Line Package, 9.44 x 6.35 mm Body, 2.54 mm Pitch; Supplier 1: Mouser; Supplier Part Number 1: 726-ICE3A2065; Supplier 2: Digi-Key; Supplier Part Number 2: ICE3A2065-ND; Packing: Tube; tr (typ): 30 ns; Mounting Technology: Through Hole; ComponentLink1Description: Manufacturer URL; ComponentLink1URL: http://www.infineon.com/; ComponentLink2Description: Datasheet; ComponentLink2URL: http://www.infineon.com/dgdl/Datasheet_CoolSET-F3_v22_30Aug2011.pdf?folderId=db3a304412b407950112b4182a3d24f8&fileId=db3a304412b407950112b428f6ba3f30; ComponentLink3Description: Package Specification; ComponentLink3URL: http://www.infineon.com/dgdl/Datasheet_CoolSET-F3_v22_30Aug2011.pdf?folderId=db3a304412b407950112b4182a3d24f8&fileId=db3a304412b407950112b428f6ba3f30
footprint INF-PG-DIP-8_A (DIP, 8-Leads, Body 9.435x7.875mm, Pitch 2.54mm)
pins: 1 SOFTS (in) "Soft-Start", 2 FB (in) "FeedBack", 3 CS (in) "Current Sense/650V Depl CoolMOS(TM) Source", 4 DRAIN (power) "650V Depl CoolMOS(TM) Drain", 5 DRAIN (power) "650V Depl CoolMOS(TM) Drain", 6 NC "Not connected", 7 VCC (power) "Controller Supply Voltage", 8 GND (power) "Controller GrouND"

## ICE3A2065ELJ
designator U?
Off-Line SMPS Current Mode Controller with Integrated 650 V CoolMOS and Startup Cell (Latched and Frequency Jitter Mode), 10.5 to 26 V, -25 to 130 degC, PG-DIP-8, Tube, Green; Manufacturer: Infineon; PartNumber: ICE3A2065ELJ; ESD Protection (max): 2 kV; Frequency ( f ) Range: 100 kHz fixed; Green: TRUE; Green Product: Lead Free; ICC (typ): 3.8 mA; ID (max): 2 A; PIN (max): 28 W; RDS (on) (typ): 0.92 Ohm; RthJA (max): 90 K/W; tf (typ): 30 ns; VCC (max): 26 V; VCC (min): 10.5 V; VDS (max): 650 V; DatasheetVersion: Rev. 2.3; PackageVersion: Rev. 02, 05/2012; PackageReference: PG-DIP-8; PackageDescription: 8-Pin Plastic (Green) Dual In-Line Package, 9.44 x 6.35 mm Body, 2.54 mm Pitch; Supplier 1: Mouser; Supplier Part Number 1: 726-ICE3A2065ELJ; Supplier 2: Digi-Key; Supplier Part Number 2: ICE3A2065ELJ-ND; tr (typ): 30 ns; Mounting Technology: Through Hole; ComponentLink1Description: Manufacturer URL; ComponentLink1URL: http://www.infineon.com/; ComponentLink2Description: Datasheet; ComponentLink2URL: http://www.infineon.com/dgdl/Datasheet_ICE3A2065ELJ_v22_30Jun2011.pdf?folderId=db3a304412b407950112b4182a3d24f8&fileId=db3a30431c69a49d011cd5e60c2a1289; ComponentLink3Description: Package Specification; ComponentLink3URL: http://www.infineon.com/dgdl/Datasheet_CoolSET-F3_v22_30Aug2011.pdf?folderId=db3a304412b407950112b4182a3d24f8&fileId=db3a304412b407950112b428f6ba3f30
footprint INF-PG-DIP-8_A (DIP, 8-Leads, Body 9.435x7.875mm, Pitch 2.54mm)
pins: 1 BL (in) "Blanking and Latch", 2 FB (in) "FeedBack", 3 CS (in) "Current Sense/650V CoolMOS(R) Source", 4 DRAIN (power) "650V CoolMOS(R) Drain", 5 DRAIN (power) "650V CoolMOS(R) Drain", 6 NC "Not connected", 7 VCC (power) "Controller Supply Voltage", 8 GND (power) "Controller GrouND"

## ICE3A2065Z
designator U?
Off-Line SMPS Current Mode Controller with Integrated 650 V Startup Cell / Depletion CoolMOS, 8.5 to 21 V, -25 to 130 degC, PG-DIP-7-1, Tube, Green; Manufacturer: Infineon; PartNumber: ICE3A2065Z; ESD Protection (max): 3 kV; Frequency ( f ) Range: 100 kHz fixed; Green: TRUE; Green Product: Lead Free; ICC (typ): 7.1 mA; ID (max): 2 A; PIN (max): 28 W; RDS (on) (typ): 0.92 Ohm; RthJA (max): 96 K/W; tf (typ): 30 ns; VCC (max): 21 V; VCC (min): 8.5 V; VDS (max): 650 V; DatasheetVersion: Rev. 2.3; PackageVersion: Rev. 02, 07/2011; PackageReference: PG-DIP-7-1; PackageDescription: 7-Pin Plastic (Green) Dual In-Line Package, 9.44 x 6.35 mm Body, 2.54 mm Pitch; Supplier 1: Mouser; Supplier Part Number 1: 726-ICE3A2065Z; Supplier 2: Farnell; Supplier Part Number 2: 1471713; Supplier 3: Digi-Key; Supplier Part Number 3: ICE3A2065Z-ND; Packing: Tube; tr (typ): 30 ns; Mounting Technology: Through Hole; ComponentLink1Description: Manufacturer URL; ComponentLink1URL: http://www.infineon.com/; ComponentLink2Description: Datasheet; ComponentLink2URL: http://www.infineon.com/dgdl/Datasheet_CoolSET-F3_v22_30Aug2011.pdf?folderId=db3a304412b407950112b4182a3d24f8&fileId=db3a304412b407950112b428f6ba3f30; ComponentLink3Description: Package Specification; ComponentLink3URL: http://www.infineon.com/dgdl/Datasheet_ICE3BR0680JZ_V21a_11Jan2012.pdf?folderId=db3a30431f848401011fcbf221ff04c3&fileId=db3a304329a0f6ee0129e8b5bf735b64
footprint INF-PG-DIP-7-1_A (DIP, 7-Leads, Body 9.44x6.35mm, Pitch 2.54mm)
pins: 1 SOFTS (in) "Soft-Start", 2 FB (in) "Feedback", 3 CS (in) "Current Sense/650V Depl. CoolMOS(TM) Source", 4 NC "Not Connected", 5 DRAIN (power) "650V Depl. CoolMOS(TM) Drain", 7 VCC (power) "Controller Supply Voltage", 8 GND (power) "Controller Ground"

## ICE3A2565
designator U?
Off-Line SMPS Current Mode Controller with Integrated 650 V Startup Cell / Depletion CoolMOS, 8.5 to 21 V, -25 to 130 degC, PG-DIP-8, Tube, Green; Manufacturer: Infineon; PartNumber: ICE3A2565; ESD Protection (max): 3 kV; Frequency ( f ) Range: 100 kHz fixed; Green: TRUE; Green Product: Lead Free; ICC (typ): 8.1 mA; ID (max): 2.5 A; PIN (max): 33 W; RDS (on) (typ): 0.65 Ohm; RthJA (max): 90 K/W; tf (typ): 30 ns; VCC (max): 21 V; VCC (min): 8.5 V; VDS (max): 650 V; DatasheetVersion: Rev. 2.3; PackageVersion: Rev. 02, 05/2012; PackageReference: PG-DIP-8; PackageDescription: 8-Pin Plastic (Green) Dual In-Line Package, 9.44 x 6.35 mm Body, 2.54 mm Pitch; Supplier 1: Mouser; Supplier Part Number 1: 726-ICE3A2565; Supplier 2: Newark; Supplier Part Number 2: 92K0554; Supplier 3: Farnell; Supplier Part Number 3: 1095678; Supplier 4: Digi-Key; Supplier Part Number 4: ICE3A2565-ND; Packing: Tube; tr (typ): 30 ns; Mounting Technology: Through Hole; ComponentLink1Description: Manufacturer URL; ComponentLink1URL: http://www.infineon.com/; ComponentLink2Description: Datasheet; ComponentLink2URL: http://www.infineon.com/dgdl/Datasheet_CoolSET-F3_v22_30Aug2011.pdf?folderId=db3a304412b407950112b4182a3d24f8&fileId=db3a304412b407950112b428f6ba3f30; ComponentLink3Description: Package Specification; ComponentLink3URL: http://www.infineon.com/dgdl/Datasheet_CoolSET-F3_v22_30Aug2011.pdf?folderId=db3a304412b407950112b4182a3d24f8&fileId=db3a304412b407950112b428f6ba3f30
footprint INF-PG-DIP-8_A (DIP, 8-Leads, Body 9.435x7.875mm, Pitch 2.54mm)
pins: 1 SOFTS (in) "Soft-Start", 2 FB (in) "FeedBack", 3 CS (in) "Current Sense/650V Depl CoolMOS(TM) Source", 4 DRAIN (power) "650V Depl CoolMOS(TM) Drain", 5 DRAIN (power) "650V Depl CoolMOS(TM) Drain", 6 NC "Not connected", 7 VCC (power) "Controller Supply Voltage", 8 GND (power) "Controller GrouND"

## ICE3AR0680JZ
designator U?
Off-Line SMPS Current Mode Controller with Integrated 800 V CoolMOS and Startup Cell (Brownout & Frequency Jitter), 10.5 to 25 V, -25 to 130 degC, PG-DIP-7-1, Tube, Green; Manufacturer: Infineon; PartNumber: ICE3AR0680JZ; ESD Protection (max): 2 kV; Frequency ( f ) Range: 100 kHz (fixed); Green: TRUE; Green Product: Lead Free; ICC (typ): 5.7 mA; ID (max): 4 A; PIN (max): 52 W; RDS (on) (typ): 0.62 Ohm; RthJA (max): 96 K/W; tf (typ): 30 ns; VCC (max): 25 V; VCC (min): 10.5 V; VDS (max): 800 V; DatasheetVersion: Rev. 2.1a; PackageVersion: Rev. 02, 07/2011; PackageReference: PG-DIP-7-1; PackageDescription: 7-Pin Plastic (Green) Dual In-Line Package, 9.44 x 6.35 mm Body, 2.54 mm Pitch; Supplier 1: Mouser; Supplier Part Number 1: 726-ICE3AR0680JZ; tr (typ): 30 ns; Mounting Technology: Through Hole; ComponentLink1Description: Manufacturer URL; ComponentLink1URL: http://www.infineon.com/; ComponentLink2Description: Datasheet; ComponentLink2URL: http://www.infineon.com/dgdl/Datasheet_ICE3AR0680JZ_V21a_11Jan2012.pdf?folderId=db3a304412b407950112b4182a3d24f8&fileId=db3a3043284aacd801288a464df32ad6; ComponentLink3Description: Package Specification; ComponentLink3URL: http://www.infineon.com/dgdl/Datasheet_ICE3BR0680JZ_V21a_11Jan2012.pdf?folderId=db3a30431f848401011fcbf221ff04c3&fileId=db3a304329a0f6ee0129e8b5bf735b64
footprint INF-PG-DIP-7-1_A (DIP, 7-Leads, Body 9.44x6.35mm, Pitch 2.54mm)
pins: 1 BBA (in) "Brownout, extended Blanking time & Auto-restart enable", 2 FBB (in) "Feedback & Burst entry/exit control", 3 CS (in) "Current Sense/800V CoolMOS(R) Source", 4 NC "not connected", 5 DRAIN (power) "800V CoolMOS(R) Drain", 7 VCC (power) "Controller Supply Voltage", 8 GND (power) "Controller Ground"

## ICE3AR0680VJZ
designator U?
Off-Line SMPS Current Mode Controller with Integrated 800 V CoolMOS(TM) and Startup Cell (Input OVP & Frequency Jitter), 10.5 to 25 V, -40 to 130 degC, PG-DIP-7, Tube, Green; Manufacturer: Infineon; PartNumber: ICE3AR0680VJZ; ESD Protection (max): 2 kV; Frequency ( f ) Range: 100 kHz Fixed; Green: TRUE; Green Product: Lead Free; ICC (typ): 5.7 mA; PIN (max): 52 W; RthJA (max): 96 K/W; tf (typ): 30 ns; VCC (max): 25 V; VCC (min): 10.5 V; VDS (max): 800 V; DatasheetVersion: Rev. 2.1; PackageVersion: Rev. 02, 07/2011; PackageReference: PG-DIP-7-1; PackageDescription: 7-Pin Plastic (Green) Dual In-Line Package, 9.44 x 6.35 mm Body, 2.54 mm Pitch; Supplier 1: Mouser; Supplier Part Number 1: N/A; Halogen-free: TRUE; Mounting: THT; Packing: Tube; Tolerance: TRUE; tr (typ): 30 ns; Mounting Technology: Through Hole; ComponentLink1Description: Manufacturer URL; ComponentLink1URL: http://www.infineon.com/; ComponentLink2Description: Datasheet; ComponentLink2URL: http://www.infineon.com/dgdl?folderId=db3a30433dd36866013dd41eec4723fc&fileId=db3a304341e0aed00141ffe31ad53057; ComponentLink3Description: Package Specification; ComponentLink3URL: http://www.infineon.com/dgdl/Datasheet_ICE2QR4765Z_V21_20110830.pdf?folderId=db3a304412b407950112b408e8c90004&fileId=db3a304330046413013048a5435f51d2
footprint INF-PG-DIP-7-1_A (DIP, 7-Leads, Body 9.44x6.35mm, Pitch 2.54mm)
pins: 1 BV (in) "extended Blanking time and input OVP", 2 FBB (in) "Feedback & Burst entry/exit control", 3 CS (in) "Current Sense/ 800V CoolMOS(TM) Source", 4 NC "not connected", 5 DRAIN (power) "800V CoolMOS(TM) Drain", 7 VCC (power) "Controller Supply Voltage", 8 GND (power) "Controller Ground"

## ICE3AR1080VJZ
designator U?
Off-Line SMPS Current Mode Controller with Integrated 800 V CoolMOS(TM) and Startup Cell (Input OVP & Frequency Jitter), 10.5 to 25 V, -40 to 130 degC, PG-DIP-7, Tube, Green; Manufacturer: Infineon; PartNumber: ICE3AR1080VJZ; ESD Protection (max): 2 kV; Frequency ( f ) Range: 100 kHz Fixed; Green: TRUE; Green Product: Lead Free; ICC (typ): 5.7 mA; PIN (max): 45 W; RthJA (max): 96 K/W; tf (typ): 30 ns; VCC (max): 25 V; VCC (min): 10.5 V; VDS (max): 800 V; DatasheetVersion: Rev. 2.0; PackageVersion: Rev. 02, 07/2011; PackageReference: PG-DIP-7-1; PackageDescription: 7-Pin Plastic (Green) Dual In-Line Package, 9.44 x 6.35 mm Body, 2.54 mm Pitch; Supplier 1: Mouser; Supplier Part Number 1: N/A; Halogen-free: TRUE; Mounting: THT; Packing: Tube; Tolerance: TRUE; tr (typ): 30 ns; Mounting Technology: Through Hole; ComponentLink1Description: Manufacturer URL; ComponentLink1URL: http://www.infineon.com/; ComponentLink2Description: Datasheet; ComponentLink2URL: http://www.infineon.com/dgdl?folderId=db3a30433dd36866013dd41eec4723fc&fileId=5546d4614546039901456f0482844148; ComponentLink3Description: Package Specification; ComponentLink3URL: http://www.infineon.com/dgdl/Datasheet_ICE2QR4765Z_V21_20110830.pdf?folderId=db3a304412b407950112b408e8c90004&fileId=db3a304330046413013048a5435f51d2
footprint INF-PG-DIP-7-1_A (DIP, 7-Leads, Body 9.44x6.35mm, Pitch 2.54mm)
pins: 1 BV (in) "extended Blanking time and input OVP", 2 FBB (in) "Feedback & Burst entry/exit control", 3 CS (in) "Current Sense/ 800V CoolMOS(TM) Source", 4 NC "not connected", 5 DRAIN (power) "800V CoolMOS(TM) Drain", 7 VCC (power) "Controller Supply Voltage", 8 GND (power) "Controller Ground"

## ICE3AR1580VJZ
designator U?
Off-Line SMPS Current Mode Controller with Integrated 800 V CoolMOS(TM) and Startup Cell (Input OVP & Frequency Jitter), 10.5 to 25 V, -40 to 130 degC, PG-DIP-7, Tube, Green; Manufacturer: Infineon; PartNumber: ICE3AR1580VJZ; ESD Protection (max): 2 kV; Frequency ( f ) Range: 100 kHz Fixed; Green: TRUE; Green Product: Lead Free; ICC (typ): 5.7 mA; PIN (max): 36 W; RthJA (max): 96 K/W; tf (typ): 30 ns; VCC (max): 25 V; VCC (min): 10.5 V; VDS (max): 800 V; DatasheetVersion: Rev. 2.0; PackageVersion: Rev. 02, 07/2011; PackageReference: PG-DIP-7-1; PackageDescription: 7-Pin Plastic (Green) Dual In-Line Package, 9.44 x 6.35 mm Body, 2.54 mm Pitch; Supplier 1: Mouser; Supplier Part Number 1: N/A; Halogen-free: TRUE; Mounting: THT; Packing: Tube; Tolerance: TRUE; tr (typ): 30 ns; Mounting Technology: Through Hole; ComponentLink1Description: Manufacturer URL; ComponentLink1URL: http://www.infineon.com/; ComponentLink2Description: Datasheet; ComponentLink2URL: http://www.infineon.com/dgdl?folderId=db3a30433dd36866013dd41eec4723fc&fileId=5546d4614546039901456f0d6d8d4165; ComponentLink3Description: Package Specification; ComponentLink3URL: http://www.infineon.com/dgdl/Datasheet_ICE2QR4765Z_V21_20110830.pdf?folderId=db3a304412b407950112b408e8c90004&fileId=db3a304330046413013048a5435f51d2
footprint INF-PG-DIP-7-1_A (DIP, 7-Leads, Body 9.44x6.35mm, Pitch 2.54mm)
pins: 1 BV (in) "extended Blanking time and input OVP", 2 FBB (in) "Feedback & Burst entry/exit control", 3 CS (in) "Current Sense/ 800V CoolMOS(TM) Source", 4 NC "not connected", 5 DRAIN (power) "800V CoolMOS(TM) Drain", 7 VCC (power) "Controller Supply Voltage", 8 GND (power) "Controller Ground"